# EAGLE library part AN7164 (library Audio-Power-amlifier V.2.0)
The AN7164 is an integrated circuit designed for 30 W (VCC = 21 V, 8 W) output power amplifier. High power output (BTL 30 W), low distortion and low noise are realized. High reliability is obtained due to various kinds of protectors built in. Furthermore, on-off of output is possible from standby terminal.
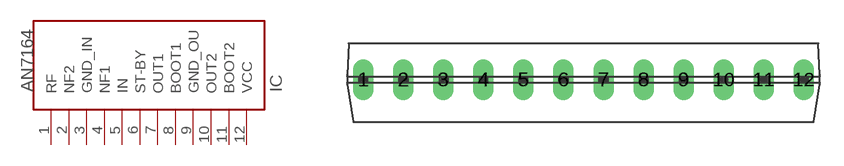
[diagram p145: symbol with the pads of HSIP012-P-0000B-2,54; footprint HSIP012-P-0000B-2,54]

Designator prefix IC

## AN7164  [HSIP012-P-0000B-2,54]
1  RF
2  NF2
3  GND_IN  pwr
4  NF1  in
5  IN  in
6  ST-BY  in
7  OUT1  out
8  BOOT1
9  GND_OU  pwr
10  OUT2  out
11  BOOT2
12  VCC  pwr

## Footprint HSIP012-P-0000B-2,54 (pad centres in mm)
drill 0.8 long: 1 -13.97,0; 2 -11.43,0; 3 -8.89,0; 4 -6.35,0; 5 -3.81,0; 6 -1.27,0; 7 1.27,0; 8 3.81,0; 9 6.35,0; 10 8.89,0; 11 11.43,0; 12 13.97,0